# EAGLE library part MCP6004 (library uo_C_SE_Library)
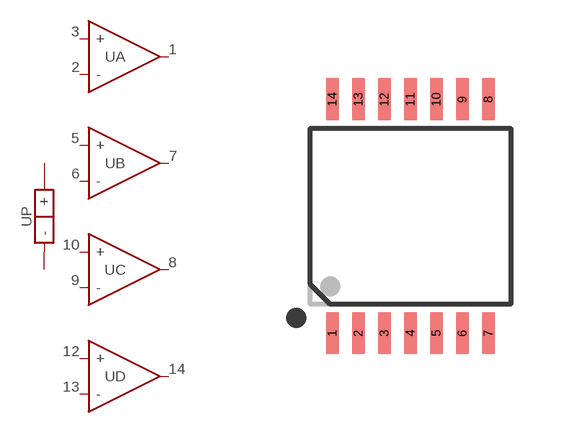
[diagram p1: symbol with the pads of TSSOP-14; footprint TSSOP-14]

Designator prefix U; gates A=OPAMP B=OPAMP C=OPAMP D=OPAMP P=POWER

## MCP6004-TSSOP-14 (MANUFACTURERPARTNUMBER: MCP6004T-I/ST)  [TSSOP-14]
1  A:OUT  out
2  A:-  in
3  A:+  in
4  P:+
5  B:+  in
6  B:-  in
7  B:OUT  out
8  C:OUT  out
9  C:-  in
10  C:+  in
11  P:-
12  D:+  in
13  D:-  in
14  D:OUT  out

## Footprint TSSOP-14 (pad centres in mm)
smd 0.32 x 1.05: 1 -1.95,-2.925; 2 -1.3,-2.925; 3 -0.65,-2.925; 4 0,-2.925; 5 0.65,-2.925; 6 1.3,-2.925; 7 1.95,-2.925; 8 1.95,2.925; 9 1.3,2.925; 10 0.65,2.925; 11 0,2.925; 12 -0.65,2.925; 13 -1.3,2.925; 14 -1.95,2.925